# EAGLE library part VGM12864SPI-W (library aitendo)
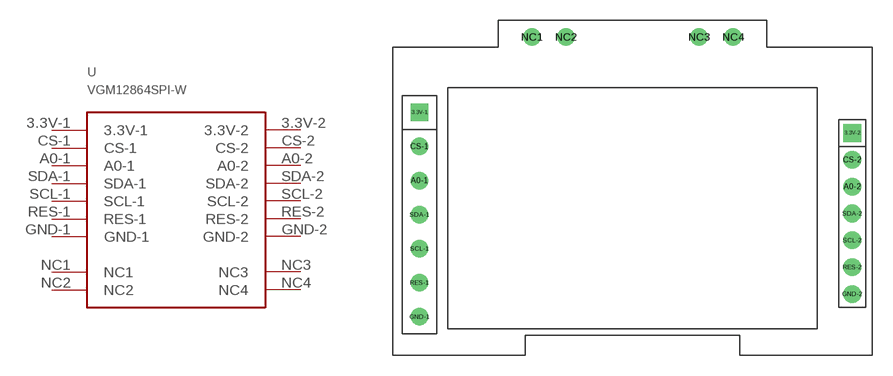
[diagram p0: symbol with the pads of VGM12864SPI-W; footprint VGM12864SPI-W]

Designator prefix -

## VGM12864SPI-W  [VGM12864SPI-W]
3.3V-1  3.3V-1
3.3V-2  3.3V-2
A0-1  A0-1
A0-2  A0-2
CS-1  CS-1
CS-2  CS-2
GND-1  GND-1
GND-2  GND-2
NC1  NC1
NC2  NC2
NC3  NC3
NC4  NC4
RES-1  RES-1
RES-2  RES-2
SCL-1  SCL-1
SCL-2  SCL-2
SDA-1  SDA-1
SDA-2  SDA-2

## Footprint VGM12864SPI-W (pad centres in mm)
drill 0.8 square: 3.3V-1 -15.87,6.636; 3.3V-2 16.37,5.1
drill 0.8: A0-1 -15.87,1.556; A0-2 16.37,1.1; CS-1 -15.87,4.096; CS-2 16.37,3.1; GND-1 -15.87,-8.604; GND-2 16.37,-6.9; NC1 -7.5,12.255; NC2 -4.96,12.255; NC3 4.96,12.255; NC4 7.5,12.255; RES-1 -15.87,-6.064; RES-2 16.37,-4.9; SCL-1 -15.87,-3.525; SCL-2 16.37,-2.9; SDA-1 -15.87,-0.985; SDA-2 16.37,-0.9